# EAGLE library part INVERTER-DUAL (library Pinoccio)
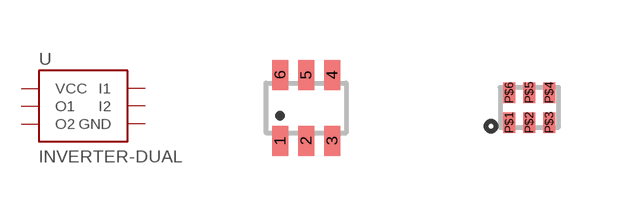
[diagram p27: symbol with the pads of SC70-6; footprints SC70-6, MICROPAK]

Designator prefix -

## INVERTER-DUAL  [SC70-6]
1  I1  in
2  GND
3  I2  in
4  O2  out
5  VCC  pwr
6  O1  out

## INVERTER-DUALPAK  [MICROPAK]
P$1  I1  in
P$2  GND
P$3  I2  in
P$4  O2  out
P$5  VCC  pwr
P$6  O1  out

## Footprint SC70-6 (pad centres in mm)
smd 0.4 x 0.75: 1 -0.65,-0.825; 2 0,-0.825; 3 0.65,-0.825; 4 0.65,0.825; 5 0,0.825; 6 -0.65,0.825

## Footprint MICROPAK (pad centres in mm)
smd 0.3 x 0.52: P$1 0.15,0.26; P$2 0.65,0.26; P$3 1.15,0.26; P$4 1.15,1.01; P$5 0.65,1.01; P$6 0.15,1.01